# Altium schematic symbol library TAFLab Sensors.SchLib: 22 symbols
Pins are listed as number, name and electrical type; pins without a type are passive.

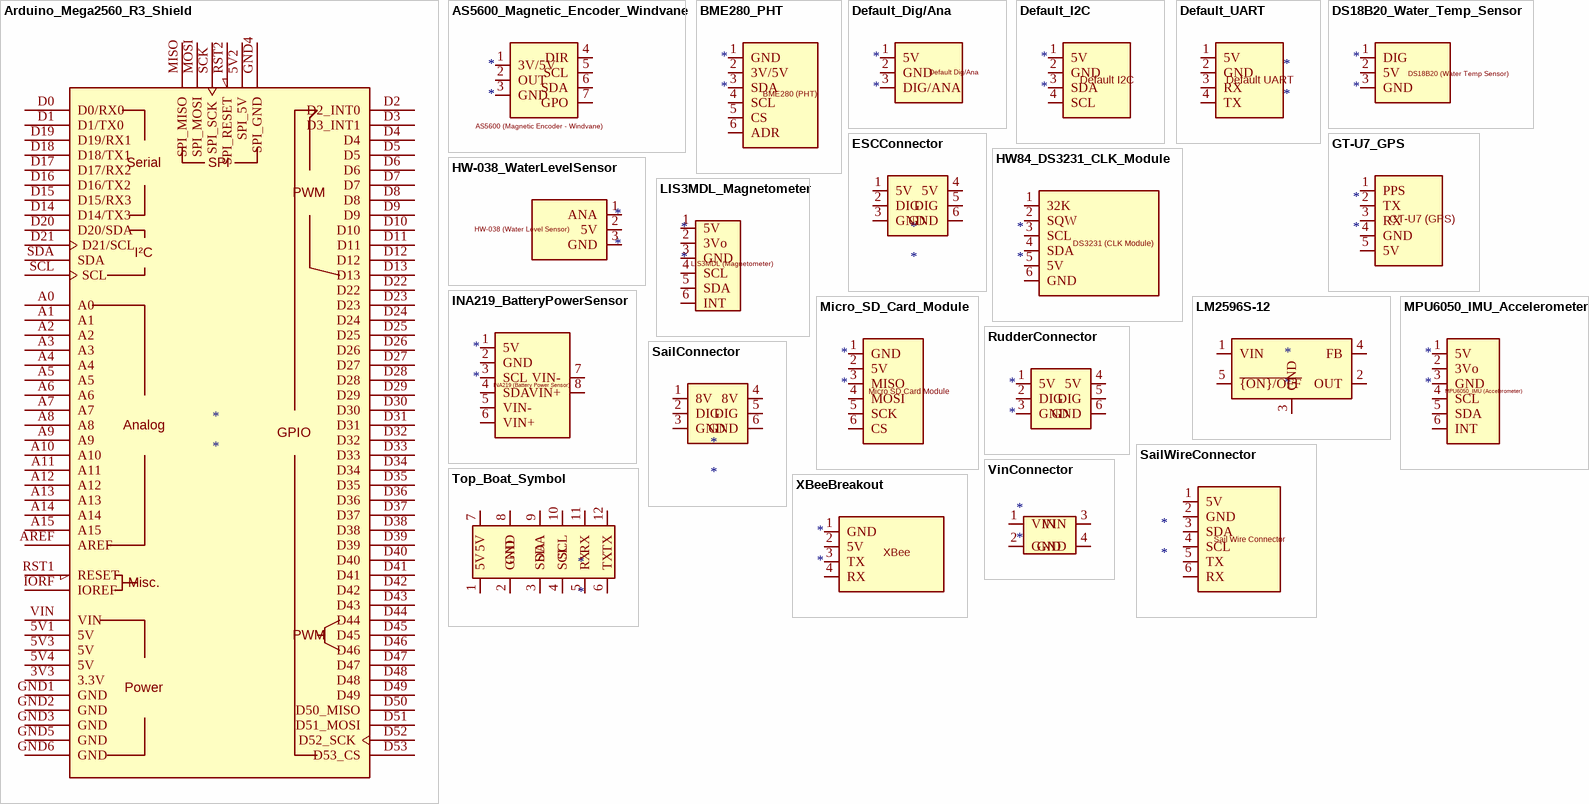
[diagram p0: symbols Arduino_Mega2560_R3_Shield to XBeeBreakout]

## Arduino_Mega2560_R3_Shield
designator *
pins: 3V3 3.3V, 5V1 5V, 5V2 SPI_5V, 5V3 5V, 5V4 5V, A0, A1, A2, A3, A4, A5, A6, A7, A8, A9, A10, A11, A12, A13, A14, A15, AREF, D0 D0/RX0, D1 D1/TX0, D2 D2_INT0, D3 D3_INT1, D4, D5, D6, D7, D8, D9, D10, D11, D12, D13, D14 D14/TX3, D15 D15/RX3, D16 D16/TX2, D17 D17/RX2, D18 D18/TX1, D19 D19/RX1, D20 D20/SDA, D21 D21/SCL, D22, D23, D24, D25, D26, D27, D28, D29, D30, D31, D32, D33, D34, D35, D36, D37, D38, D39, D40, D41, D42, D43, D44, D45, D46, D47, D48, D49, D50 D50_MISO, D51 D51_MOSI, D52 D52_SCK, D53 D53_CS, GND1 GND, GND2 GND, GND3 GND, GND4 SPI_GND, GND5 GND, GND6 GND, IORF IOREF, MISO SPI_MISO, MOSI SPI_MOSI, RST1 RESET, RST2 SPI_RESET, SCK SPI_SCK, SCL, SDA, VIN
text: Serial; SPI; PWM; I²C; Analog; GPIO; Misc.; Power

## AS5600_Magnetic_Encoder_Windvane
designator *
pins: 1 3V/5V, 2 OUT, 3 GND, 4 DIR, 5 SCL, 6 SDA, 7 GPO
text: AS5600 (Magnetic Encoder - Windvane)

## BME280_PHT
designator *
pins: 1 GND, 2 3V/5V, 3 SDA, 4 SCL, 5 CS, 6 ADR
text: BME280 (PHT)

## Default_Dig/Ana
designator *
pins: 1 5V, 2 GND, 3 DIG/ANA
text: Default Dig/Ana

## Default_I2C
designator *
pins: 1 5V, 2 GND, 3 SDA, 4 SCL
text: Default I2C

## Default_UART
designator *
pins: 1 5V, 2 GND, 3 RX, 4 TX
text: Default UART

## DS18B20_Water_Temp_Sensor
designator *
pins: 1 DIG, 2 5V, 3 GND
text: DS18B20 (Water Temp Sensor)

## ESCConnector
designator *
pins: 1 5V, 2 DIG, 3 GND, 4 5V, 5 DIG, 6 GND

## GT-U7_GPS
designator *
pins: 1 PPS, 2 TX, 3 RX, 4 GND, 5 5V
text: GT-U7 (GPS)

## HW84_DS3231_CLK_Module
designator *
pins: 1 32K, 2 SQW, 3 SCL, 4 SDA, 5 5V, 6 GND
text: DS3231 (CLK Module)

## HW-038_WaterLevelSensor
designator *
pins: 1 ANA, 2 5V, 3 GND
text: HW-038 (Water Level Sensor)

## INA219_BatteryPowerSensor
designator *
pins: 1 5V, 2 GND, 3 SCL, 4 SDA, 5 VIN-, 6 VIN+, 7 VIN-, 8 VIN+
text: INA219 (Battery Power Sensor)

## LIS3MDL_Magnetometer
designator *
pins: 1 5V, 2 3Vo, 3 GND, 4 SCL, 5 SDA, 6 INT
text: LIS3MDL (Magnetometer)

## LM2596S-12
designator *
pins: 1 VIN, 2 OUT, 3 GND, 4 FB, 5 ~{{ON}/OFF}

## Micro_SD_Card_Module
designator *
pins: 1 GND, 2 5V, 3 MISO, 4 MOSI, 5 SCK, 6 CS
text: Micro SD Card Module

## MPU6050_IMU_Accelerometer
designator *
pins: 1 5V, 2 3Vo, 3 GND, 4 SCL, 5 SDA, 6 INT
text: MPU6050_IMU (Accelerometer)

## RudderConnector
designator *
pins: 1 5V, 2 DIG, 3 GND, 4 5V, 5 DIG, 6 GND

## SailConnector
designator *
pins: 1 8V, 2 DIG, 3 GND, 4 8V, 5 DIG, 6 GND

## SailWireConnector
designator *
pins: 1 5V, 2 GND, 3 SDA, 4 SCL, 5 TX, 6 RX
text: Sail Wire Connector

## Top_Boat_Symbol
designator *
pins: 1 5V, 2 GND, 3 SDA, 4 SCL, 5 RX, 6 TX, 7 5V, 8 GND, 9 SDA, 10 SCL, 11 RX, 12 TX

## VinConnector
designator *
pins: 1 VIN, 2 GND, 3 VIN, 4 GND

## XBeeBreakout
designator *
pins: 1 GND, 2 5V, 3 TX, 4 RX
text: XBee